# Altium integrated library Renesas Microcontroller H8S.IntLib: 670 symbols (part 24 of 70)
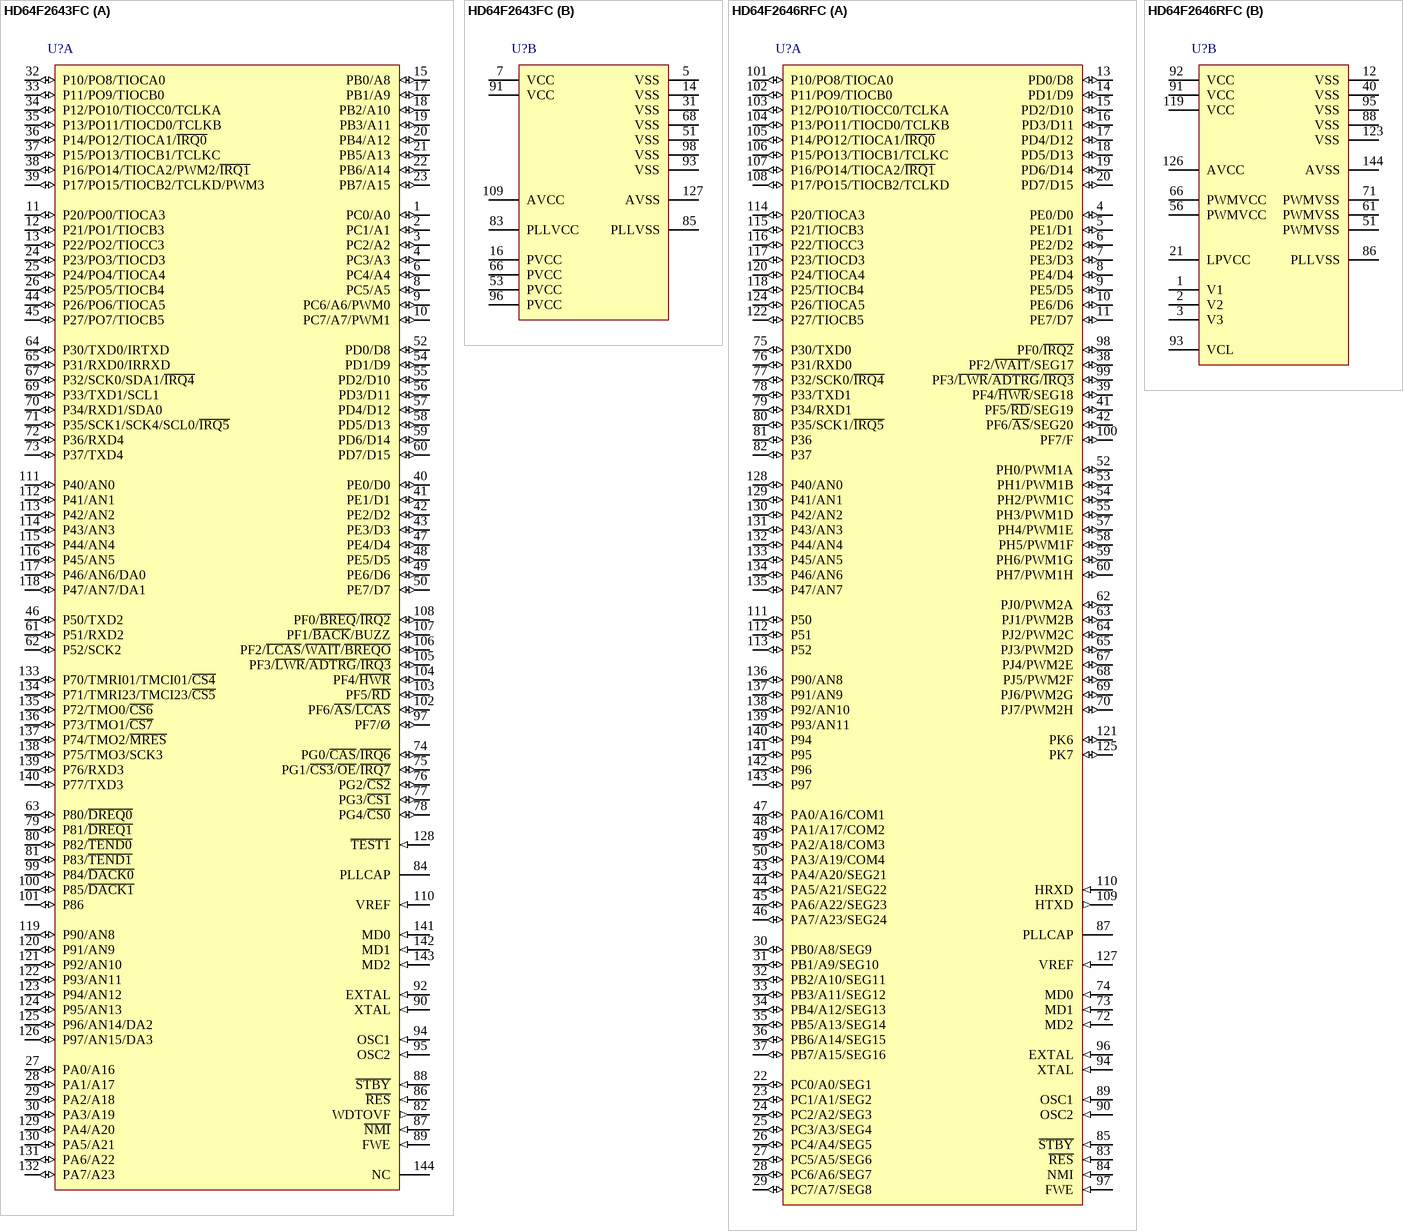
[diagram p356: symbols HD64F2643FC to HD64F2646RFC]

## HD64F2643FC
designator U?
Flash memory H8S/2600 Series, 2643 Group MCU, 256K ROM, 16K RAM, FP-144J Pkg; Published: 28-Aug-2009; DatasheetVersion: Rev.3.00, Jan-2005; PackageVersion: Sep-2005; PackageReference: PRQP0144KB-A; Publisher: Altium Limited; PackageDescription: 144-Pin Plastic Quad Flat Pack, 20 x 20 x 2.7 mm Body, 0.5 mm Pitch; Code_JEITA: P-QFP144-20x20-0.50; ComponentLink1Description: Manufacturer Link; ComponentLink1URL: http://sg.renesas.com/fmwk.jsp?cnt=h8s_family_landing.jsp&fp=/products/mpumcu/h8s_family/; ComponentLink2Description: Datasheet; ComponentLink2URL: http://documentation.renesas.com/eng/products/mpumcu/rej09b0186_h8s2643.pdf; ComponentLink3Description: Packaging Specification; ComponentLink3URL: http://sg.renesas.com/media/products/common_info/package/pdf/ic/code/prqp0144kb_a.pdf
footprint PRQP0144KB-A_N (Shrink QFP, 144-Leads, Body 20x20mm, Pitch 0.5mm, IPC Medium Density)
footprint PRQP0144KB-A_L (Shrink QFP, 144-Leads, Body 20x20mm, Pitch 0.5mm, IPC High Density)
footprint PRQP0144KB-A_M (Shrink QFP, 144-Leads, Body 20x20mm, Pitch 0.5mm, IPC Low Density)
part A pins: 1 PC0/A0 (io), 2 PC1/A1 (io), 3 PC2/A2 (io), 4 PC3/A3 (io), 6 PC4/A4 (io), 8 PC5/A5 (io), 9 PC6/A6/PWM0 (io), 10 PC7/A7/PWM1 (io), 11 P20/PO0/TIOCA3 (io), 12 P21/PO1/TIOCB3 (io), 13 P22/PO2/TIOCC3 (io), 15 PB0/A8 (io), 17 PB1/A9 (io), 18 PB2/A10 (io), 19 PB3/A11 (io), 20 PB4/A12 (io), 21 PB5/A13 (io), 22 PB6/A14 (io), 23 PB7/A15 (io), 24 P23/PO3/TIOCD3 (io), 25 P24/PO4/TIOCA4 (io), 26 P25/PO5/TIOCB4 (io), 27 PA0/A16 (io), 28 PA1/A17 (io), 29 PA2/A18 (io), 30 PA3/A19 (io), 32 P10/PO8/TIOCA0 (io), 33 P11/PO9/TIOCB0 (io), 34 P12/PO10/TIOCC0/TCLKA (io), 35 P13/PO11/TIOCD0/TCLKB (io), 36 P14/PO12/TIOCA1/~{IRQ0} (io), 37 P15/PO13/TIOCB1/TCLKC (io), 38 P16/PO14/TIOCA2/PWM2/~{IRQ1} (io), 39 P17/PO15/TIOCB2/TCLKD/PWM3 (io), 40 PE0/D0 (io), 41 PE1/D1 (io), 42 PE2/D2 (io), 43 PE3/D3 (io), 44 P26/PO6/TIOCA5 (io), 45 P27/PO7/TIOCB5 (io), 46 P50/TXD2 (io), 47 PE4/D4 (io), 48 PE5/D5 (io), 49 PE6/D6 (io), 50 PE7/D7 (io), 52 PD0/D8 (io), 54 PD1/D9 (io), 55 PD2/D10 (io), 56 PD3/D11 (io), 57 PD4/D12 (io), 58 PD5/D13 (io), 59 PD6/D14 (io), 60 PD7/D15 (io), 61 P51/RXD2 (io), 62 P52/SCK2 (io), 63 P80/~{DREQ0} (io), 64 P30/TXD0/IRTXD (io), 65 P31/RXD0/IRRXD (io), 67 P32/SCK0/SDA1/~{IRQ4} (io), 69 P33/TXD1/SCL1 (io), 70 P34/RXD1/SDA0 (io), 71 P35/SCK1/SCK4/SCL0/~{IRQ5} (io), 72 P36/RXD4 (io), 73 P37/TXD4 (io), 74 PG0/~{CAS}/~{IRQ6} (io), 75 PG1/~{CS3}/~{OE}/~{IRQ7} (io), 76 PG2/~{CS2} (io), 77 PG3/~{CS1} (io), 78 PG4/~{CS0} (io), 79 P81/~{DREQ1} (io), 80 P82/~{TEND0} (io), 81 P83/~{TEND1} (io), 82 WDTOVF (out), 84 PLLCAP, 86 ~{RES} (in), 87 ~{NMI} (in), 88 ~{STBY} (in), 89 FWE (in), 90 XTAL (in), 92 EXTAL (in), 94 OSC1 (in), 95 OSC2 (in), 97 PF7/Ø (io), 99 P84/~{DACK0} (io), 100 P85/~{DACK1} (io), 101 P86 (io), 102 PF6/~{AS}/~{LCAS} (io), 103 PF5/~{RD} (io), 104 PF4/~{HWR} (io), 105 PF3/~{LWR}/~{ADTRG}/~{IRQ3} (io), 106 PF2/~{LCAS}/~{WAIT}/~{BREQO} (io), 107 PF1/~{BACK}/BUZZ (io), 108 PF0/~{BREQ}/~{IRQ2} (io), 110 VREF (in), 111 P40/AN0 (io), 112 P41/AN1 (io), 113 P42/AN2 (io), 114 P43/AN3 (io), 115 P44/AN4 (io), 116 P45/AN5 (io), 117 P46/AN6/DA0 (io), 118 P47/AN7/DA1 (io), 119 P90/AN8 (io), 120 P91/AN9 (io), 121 P92/AN10 (io), 122 P93/AN11 (io), 123 P94/AN12 (io), 124 P95/AN13 (io), 125 P96/AN14/DA2 (io), 126 P97/AN15/DA3 (io), 128 ~{TEST1} (in), 129 PA4/A20 (io), 130 PA5/A21 (io), 131 PA6/A22 (io), 132 PA7/A23 (io), 133 P70/TMRI01/TMCI01/~{CS4} (io), 134 P71/TMRI23/TMCI23/~{CS5} (io), 135 P72/TMO0/~{CS6} (io), 136 P73/TMO1/~{CS7} (io), 137 P74/TMO2/~{MRES} (io), 138 P75/TMO3/SCK3 (io), 139 P76/RXD3 (io), 140 P77/TXD3 (io), 141 MD0 (in), 142 MD1 (in), 143 MD2 (in), 144 NC
part B pins: 5 VSS (power), 7 VCC (power), 14 VSS (power), 16 PVCC (power), 31 VSS (power), 51 VSS (power), 53 PVCC (power), 66 PVCC (power), 68 VSS (power), 83 PLLVCC (power), 85 PLLVSS (power), 91 VCC (power), 93 VSS (power), 96 PVCC (power), 98 VSS (power), 109 AVCC (power), 127 AVSS (power)

## HD64F2646RFC
designator U?
Flash memory H8S/2600 Series, 2646 Group MCU, 128K ROM, 4K RAM, FP-144J Pkg; Published: 28-Aug-2009; DatasheetVersion: Rev.6.00, Mar-2009; PackageVersion: Sep-2005; PackageReference: PRQP0144KB-A; Publisher: Altium Limited; PackageDescription: 144-Pin Plastic Quad Flat Pack, 20 x 20 x 2.7 mm Body, 0.5 mm Pitch; Code_JEITA: P-QFP144-20x20-0.50; ComponentLink1Description: Manufacturer Link; ComponentLink1URL: http://sg.renesas.com/fmwk.jsp?cnt=h8s_family_landing.jsp&fp=/products/mpumcu/h8s_family/; ComponentLink2Description: Datasheet; ComponentLink2URL: http://documentation.renesas.com/eng/products/mpumcu/rej09b0257_2646hm.pdf; ComponentLink3Description: Packaging Specification; ComponentLink3URL: http://sg.renesas.com/media/products/common_info/package/pdf/ic/code/prqp0144kb_a.pdf
footprint PRQP0144KB-A_N (Shrink QFP, 144-Leads, Body 20x20mm, Pitch 0.5mm, IPC Medium Density)
footprint PRQP0144KB-A_L (Shrink QFP, 144-Leads, Body 20x20mm, Pitch 0.5mm, IPC High Density)
footprint PRQP0144KB-A_M (Shrink QFP, 144-Leads, Body 20x20mm, Pitch 0.5mm, IPC Low Density)
part A pins: 4 PE0/D0 (io), 5 PE1/D1 (io), 6 PE2/D2 (io), 7 PE3/D3 (io), 8 PE4/D4 (io), 9 PE5/D5 (io), 10 PE6/D6 (io), 11 PE7/D7 (io), 13 PD0/D8 (io), 14 PD1/D9 (io), 15 PD2/D10 (io), 16 PD3/D11 (io), 17 PD4/D12 (io), 18 PD5/D13 (io), 19 PD6/D14 (io), 20 PD7/D15 (io), 22 PC0/A0/SEG1 (io), 23 PC1/A1/SEG2 (io), 24 PC2/A2/SEG3 (io), 25 PC3/A3/SEG4 (io), 26 PC4/A4/SEG5 (io), 27 PC5/A5/SEG6 (io), 28 PC6/A6/SEG7 (io), 29 PC7/A7/SEG8 (io), 30 PB0/A8/SEG9 (io), 31 PB1/A9/SEG10 (io), 32 PB2/A10/SEG11 (io), 33 PB3/A11/SEG12 (io), 34 PB4/A12/SEG13 (io), 35 PB5/A13/SEG14 (io), 36 PB6/A14/SEG15 (io), 37 PB7/A15/SEG16 (io), 38 PF2/~{WAIT}/SEG17 (io), 39 PF4/~{HWR}/SEG18 (io), 41 PF5/~{RD}/SEG19 (io), 42 PF6/~{AS}/SEG20 (io), 43 PA4/A20/SEG21 (io), 44 PA5/A21/SEG22 (io), 45 PA6/A22/SEG23 (io), 46 PA7/A23/SEG24 (io), 47 PA0/A16/COM1 (io), 48 PA1/A17/COM2 (io), 49 PA2/A18/COM3 (io), 50 PA3/A19/COM4 (io), 52 PH0/PWM1A (io), 53 PH1/PWM1B (io), 54 PH2/PWM1C (io), 55 PH3/PWM1D (io), 57 PH4/PWM1E (io), 58 PH5/PWM1F (io), 59 PH6/PWM1G (io), 60 PH7/PWM1H (io), 62 PJ0/PWM2A (io), 63 PJ1/PWM2B (io), 64 PJ2/PWM2C (io), 65 PJ3/PWM2D (io), 67 PJ4/PWM2E (io), 68 PJ5/PWM2F (io), 69 PJ6/PWM2G (io), 70 PJ7/PWM2H (io), 72 MD2 (in), 73 MD1 (in), 74 MD0 (in), 75 P30/TXD0 (io), 76 P31/RXD0 (io), 77 P32/SCK0/~{IRQ4} (io), 78 P33/TXD1 (io), 79 P34/RXD1 (io), 80 P35/SCK1/~{IRQ5} (io), 81 P36 (io), 82 P37 (io), 83 ~{RES} (in), 84 NMI (in), 85 ~{STBY} (in), 87 PLLCAP, 89 OSC1 (in), 90 OSC2 (in), 94 XTAL (in), 96 EXTAL (in), 97 FWE (in), 98 PF0/~{IRQ2} (io), 99 PF3/~{LWR}/~{ADTRG}/~{IRQ3} (io), 100 PF7/F (io), 101 P10/PO8/TIOCA0 (io), 102 P11/PO9/TIOCB0 (io), 103 P12/PO10/TIOCC0/TCLKA (io), 104 P13/PO11/TIOCD0/TCLKB (io), 105 P14/PO12/TIOCA1/~{IRQ0} (io), 106 P15/PO13/TIOCB1/TCLKC (io), 107 P16/PO14/TIOCA2/~{IRQ1} (io), 108 P17/PO15/TIOCB2/TCLKD (io), 109 HTXD (out), 110 HRXD (in), 111 P50 (io), 112 P51 (io), 113 P52 (io), 114 P20/TIOCA3 (io), 115 P21/TIOCB3 (io), 116 P22/TIOCC3 (io), 117 P23/TIOCD3 (io), 118 P25/TIOCB4 (io), 120 P24/TIOCA4 (io), 121 PK6 (io), 122 P27/TIOCB5 (io), 124 P26/TIOCA5 (io), 125 PK7 (io), 127 VREF (in), 128 P40/AN0 (io), 129 P41/AN1 (io), 130 P42/AN2 (io), 131 P43/AN3 (io), 132 P44/AN4 (io), 133 P45/AN5 (io), 134 P46/AN6 (io), 135 P47/AN7 (io), 136 P90/AN8 (io), 137 P91/AN9 (io), 138 P92/AN10 (io), 139 P93/AN11 (io), 140 P94 (io), 141 P95 (io), 142 P96 (io), 143 P97 (io)
part B pins: 1 V1 (power), 2 V2 (power), 3 V3 (power), 12 VSS (power), 21 LPVCC (power), 40 VSS (power), 51 PWMVSS (power), 56 PWMVCC (power), 61 PWMVSS (power), 66 PWMVCC (power), 71 PWMVSS (power), 86 PLLVSS (power), 88 VSS (power), 91 VCC (power), 92 VCC (power), 93 VCL, 95 VSS (power), 119 VCC (power), 123 VSS (power), 126 AVCC (power), 144 AVSS (power)

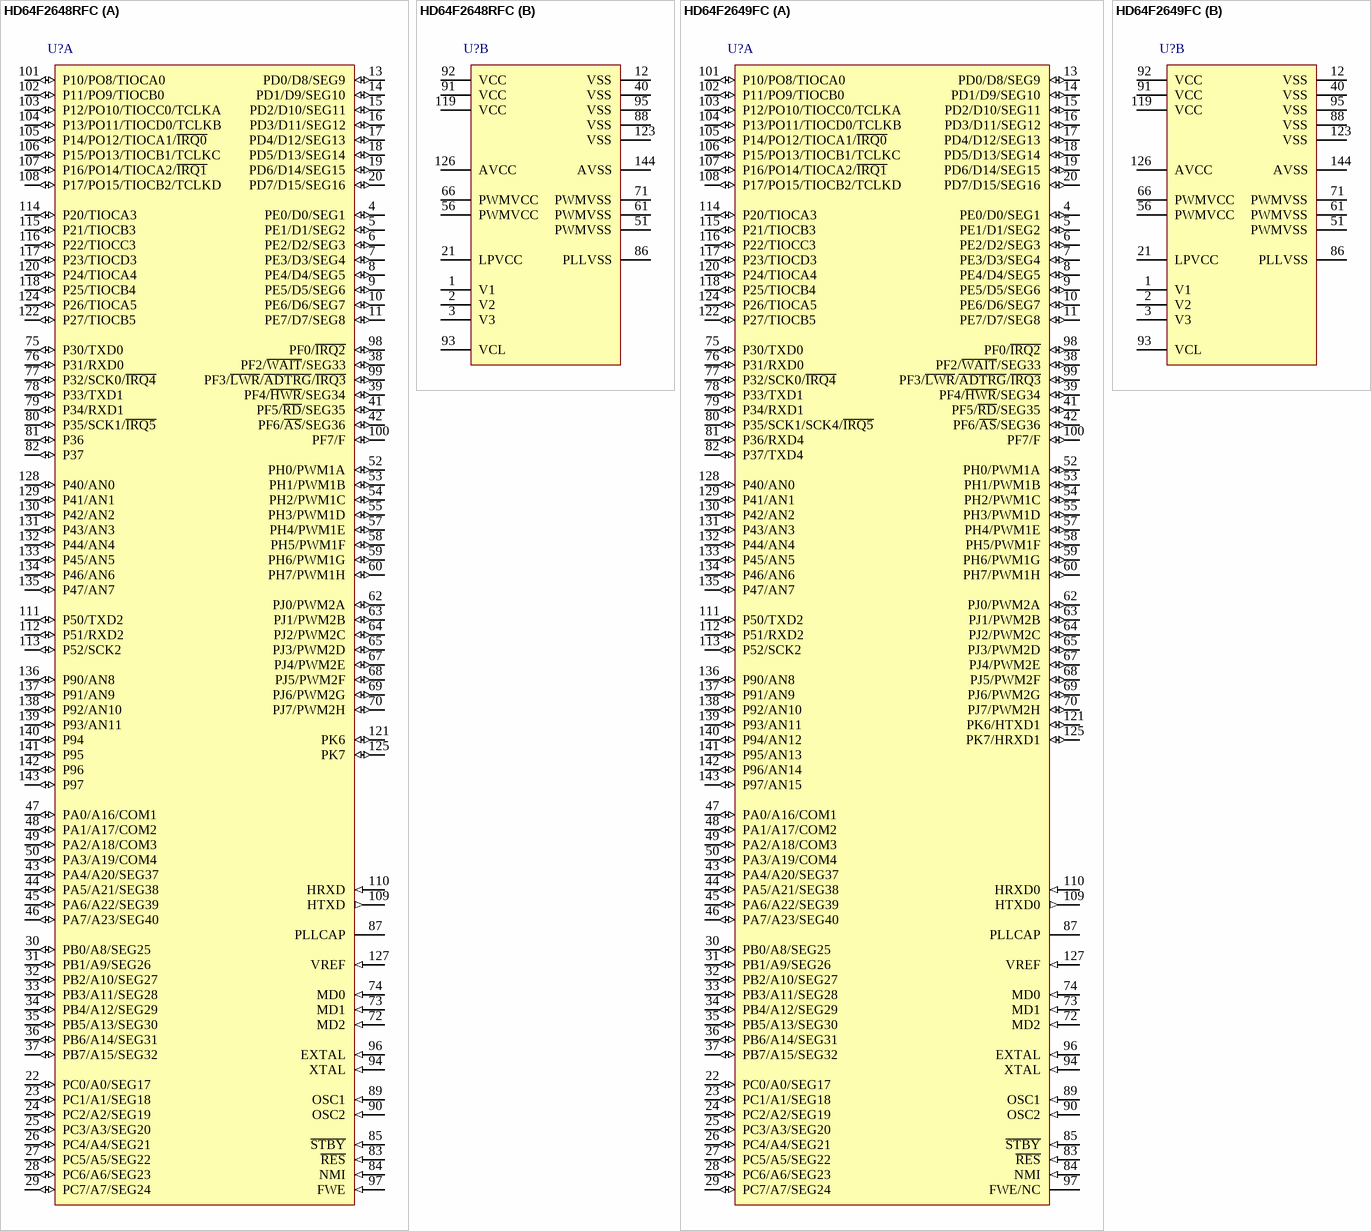
[diagram p86: symbols HD64F2648RFC to HD64F2649FC]

## HD64F2648RFC
designator U?
Flash memory H8S/2600 Series, 2648 Group MCU, 128K ROM, 4K RAM, FP-144J Pkg; Published: 28-Aug-2009; DatasheetVersion: Rev.6.00, Mar-2009; PackageVersion: Sep-2005; PackageReference: PRQP0144KB-A; Publisher: Altium Limited; PackageDescription: 144-Pin Plastic Quad Flat Pack, 20 x 20 x 2.7 mm Body, 0.5 mm Pitch; Code_JEITA: P-QFP144-20x20-0.50; ComponentLink1Description: Manufacturer Link; ComponentLink1URL: http://sg.renesas.com/fmwk.jsp?cnt=h8s_family_landing.jsp&fp=/products/mpumcu/h8s_family/; ComponentLink2Description: Datasheet; ComponentLink2URL: http://documentation.renesas.com/eng/products/mpumcu/rej09b0257_2646hm.pdf; ComponentLink3Description: Packaging Specification; ComponentLink3URL: http://sg.renesas.com/media/products/common_info/package/pdf/ic/code/prqp0144kb_a.pdf
footprint PRQP0144KB-A_N (Shrink QFP, 144-Leads, Body 20x20mm, Pitch 0.5mm, IPC Medium Density)
footprint PRQP0144KB-A_L (Shrink QFP, 144-Leads, Body 20x20mm, Pitch 0.5mm, IPC High Density)
footprint PRQP0144KB-A_M (Shrink QFP, 144-Leads, Body 20x20mm, Pitch 0.5mm, IPC Low Density)
part A pins: 4 PE0/D0/SEG1 (io), 5 PE1/D1/SEG2 (io), 6 PE2/D2/SEG3 (io), 7 PE3/D3/SEG4 (io), 8 PE4/D4/SEG5 (io), 9 PE5/D5/SEG6 (io), 10 PE6/D6/SEG7 (io), 11 PE7/D7/SEG8 (io), 13 PD0/D8/SEG9 (io), 14 PD1/D9/SEG10 (io), 15 PD2/D10/SEG11 (io), 16 PD3/D11/SEG12 (io), 17 PD4/D12/SEG13 (io), 18 PD5/D13/SEG14 (io), 19 PD6/D14/SEG15 (io), 20 PD7/D15/SEG16 (io), 22 PC0/A0/SEG17 (io), 23 PC1/A1/SEG18 (io), 24 PC2/A2/SEG19 (io), 25 PC3/A3/SEG20 (io), 26 PC4/A4/SEG21 (io), 27 PC5/A5/SEG22 (io), 28 PC6/A6/SEG23 (io), 29 PC7/A7/SEG24 (io), 30 PB0/A8/SEG25 (io), 31 PB1/A9/SEG26 (io), 32 PB2/A10/SEG27 (io), 33 PB3/A11/SEG28 (io), 34 PB4/A12/SEG29 (io), 35 PB5/A13/SEG30 (io), 36 PB6/A14/SEG31 (io), 37 PB7/A15/SEG32 (io), 38 PF2/~{WAIT}/SEG33 (io), 39 PF4/~{HWR}/SEG34 (io), 41 PF5/~{RD}/SEG35 (io), 42 PF6/~{AS}/SEG36 (io), 43 PA4/A20/SEG37 (io), 44 PA5/A21/SEG38 (io), 45 PA6/A22/SEG39 (io), 46 PA7/A23/SEG40 (io), 47 PA0/A16/COM1 (io), 48 PA1/A17/COM2 (io), 49 PA2/A18/COM3 (io), 50 PA3/A19/COM4 (io), 52 PH0/PWM1A (io), 53 PH1/PWM1B (io), 54 PH2/PWM1C (io), 55 PH3/PWM1D (io), 57 PH4/PWM1E (io), 58 PH5/PWM1F (io), 59 PH6/PWM1G (io), 60 PH7/PWM1H (io), 62 PJ0/PWM2A (io), 63 PJ1/PWM2B (io), 64 PJ2/PWM2C (io), 65 PJ3/PWM2D (io), 67 PJ4/PWM2E (io), 68 PJ5/PWM2F (io), 69 PJ6/PWM2G (io), 70 PJ7/PWM2H (io), 72 MD2 (in), 73 MD1 (in), 74 MD0 (in), 75 P30/TXD0 (io), 76 P31/RXD0 (io), 77 P32/SCK0/~{IRQ4} (io), 78 P33/TXD1 (io), 79 P34/RXD1 (io), 80 P35/SCK1/~{IRQ5} (io), 81 P36 (io), 82 P37 (io), 83 ~{RES} (in), 84 NMI (in), 85 ~{STBY} (in), 87 PLLCAP, 89 OSC1 (in), 90 OSC2 (in), 94 XTAL (in), 96 EXTAL (in), 97 FWE (in), 98 PF0/~{IRQ2} (io), 99 PF3/~{LWR}/~{ADTRG}/~{IRQ3} (io), 100 PF7/F (io), 101 P10/PO8/TIOCA0 (io), 102 P11/PO9/TIOCB0 (io), 103 P12/PO10/TIOCC0/TCLKA (io), 104 P13/PO11/TIOCD0/TCLKB (io), 105 P14/PO12/TIOCA1/~{IRQ0} (io), 106 P15/PO13/TIOCB1/TCLKC (io), 107 P16/PO14/TIOCA2/~{IRQ1} (io), 108 P17/PO15/TIOCB2/TCLKD (io), 109 HTXD (out), 110 HRXD (in), 111 P50/TXD2 (io), 112 P51/RXD2 (io), 113 P52/SCK2 (io), 114 P20/TIOCA3 (io), 115 P21/TIOCB3 (io), 116 P22/TIOCC3 (io), 117 P23/TIOCD3 (io), 118 P25/TIOCB4 (io), 120 P24/TIOCA4 (io), 121 PK6 (io), 122 P27/TIOCB5 (io), 124 P26/TIOCA5 (io), 125 PK7 (io), 127 VREF (in), 128 P40/AN0 (io), 129 P41/AN1 (io), 130 P42/AN2 (io), 131 P43/AN3 (io), 132 P44/AN4 (io), 133 P45/AN5 (io), 134 P46/AN6 (io), 135 P47/AN7 (io), 136 P90/AN8 (io), 137 P91/AN9 (io), 138 P92/AN10 (io), 139 P93/AN11 (io), 140 P94 (io), 141 P95 (io), 142 P96 (io), 143 P97 (io)
part B pins: 1 V1 (power), 2 V2 (power), 3 V3 (power), 12 VSS (power), 21 LPVCC (power), 40 VSS (power), 51 PWMVSS (power), 56 PWMVCC (power), 61 PWMVSS (power), 66 PWMVCC (power), 71 PWMVSS (power), 86 PLLVSS (power), 88 VSS (power), 91 VCC (power), 92 VCC (power), 93 VCL, 95 VSS (power), 119 VCC (power), 123 VSS (power), 126 AVCC (power), 144 AVSS (power)